# EAGLE library part TSL2561 (library TSL2561)
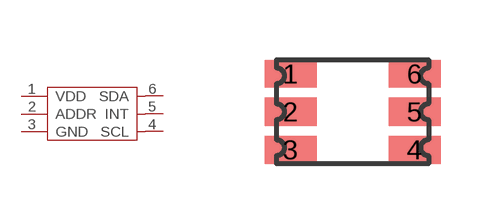
[diagram p0: symbol with the pads of TMB-6; footprint TMB-6]

Designator prefix U

## TSL2561T  [TMB-6]
1  VDD  sup
2  ADDR  in
3  GND  sup
4  SCL  in
5  INT  out
6  SDA

## Footprint TMB-6 (pad centres in mm)
smd 1.3 x 0.7: 1 -1.55,0.95; 2 -1.55,0; 3 -1.55,-0.95; 4 1.55,-0.95; 5 1.55,0; 6 1.55,0.95